# Altium schematic symbol library Documents.SCHLIB: 25 symbols
Pins are listed as number, name and electrical type; pins without a type are passive.

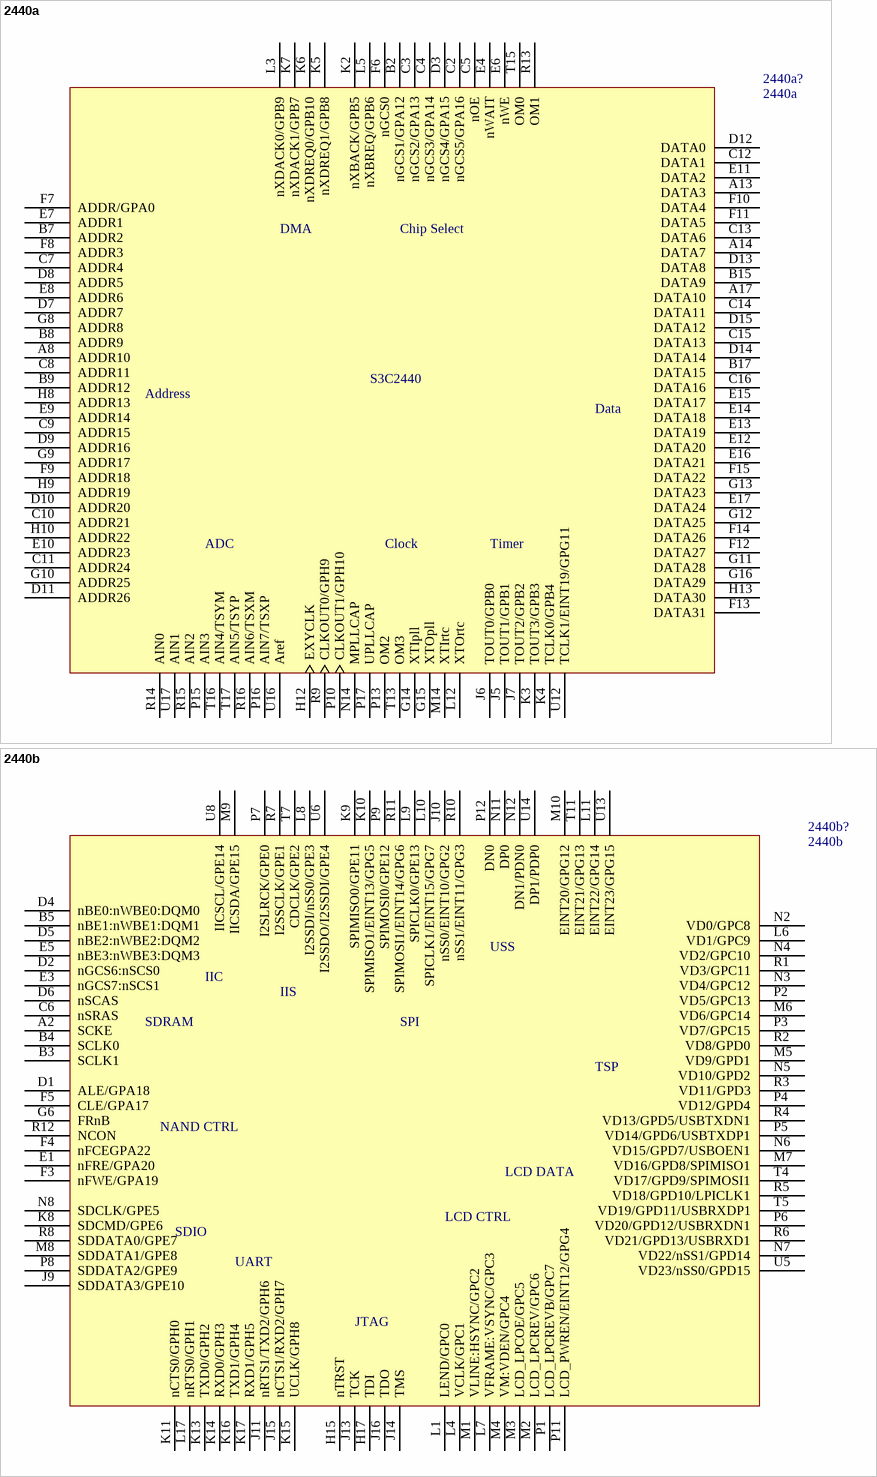
[diagram p0: symbols 2440a to 2440b]

## 2440a
designator 2440a?
pins: A8 ADDR10, A13 DATA3, A14 DATA7, A17 DATA10, B2 nGCS1/GPA12, B7 ADDR2, B8 ADDR9, B9 ADDR12, B15 DATA9, B17 DATA15, C2 nGCS5/GPA16, C3 nGCS2/GPA13, C4 nGCS3/GPA14, C5 nOE, C7 ADDR4, C8 ADDR11, C9 ADDR15, C10 ADDR21, C11 ADDR24, C12 DATA1, C13 DATA6, C14 DATA11, C15 DATA13, C16 DATA16, D3 nGCS4/GPA15, D7 ADDR7, D8 ADDR5, D9 ADDR16, D10 ADDR20, D11 ADDR26, D12 DATA0, D13 DATA8, D14 DATA14, D15 DATA12, E4 nWAIT, E6 nWE, E7 ADDR1, E8 ADDR6, E9 ADDR14, E10 ADDR23, E11 DATA2, E12 DATA20, E13 DATA19, E14 DATA18, E15 DATA17, E16 DATA21, E17 DATA24, F6 nGCS0, F7 ADDR/GPA0, F8 ADDR3, F9 ADDR18, F10 DATA4, F11 DATA5, F12 DATA27, F13 DATA31, F14 DATA26, F15 DATA22, G8 ADDR8, G9 ADDR17, G10 ADDR25, G11 DATA28, G12 DATA25, G13 DATA23, G14 XTIpll, G15 XTOpll, G16 DATA29, H8 ADDR13, H9 ADDR19, H10 ADDR22, H12 EXYCLK, H13 DATA30, J5 TOUT1/GPB1, J6 TOUT0/GPB0, J7 TOUT2/GPB2, K2 nXBACK/GPB5, K3 TOUT3/GPB3, K4 TCLK0/GPB4, K5 nXDREQ1/GPB8, K6 nXDREQ0/GPB10, K7 nXDACK1/GPB7, L3 nXDACK0/GPB9, L5 nXBREQ/GPB6, L12 XTOrtc, M14 XTIrtc, N14 MPLLCAP, P10 CLKOUT1/GPH10, P13 OM2, P15 AIN3, P16 AIN7/TSXP, P17 UPLLCAP, R9 CLKOUT0/GPH9, R13 OM1, R14 AIN0, R15 AIN2, R16 AIN6/TSXM, T13 OM3, T15 OM0, T16 AIN4/TSYM, T17 AIN5/TSYP, U12 TCLK1/EINT19/GPG11, U16 Aref, U17 AIN1
text: DMA; Chip Select; S3C2440; Address; Data; ADC; Clock; Timer

## 2440b
designator 2440b?
pins: A2 SCKE, B3 SCLK1, B4 SCLK0, B5 nBE1:nWBE1:DQM1, C6 nSRAS, D1 ALE/GPA18, D2 nGCS6:nSCS0, D4 nBE0:nWBE0:DQM0, D5 nBE2:nWBE2:DQM2, D6 nSCAS, E1 nFRE/GPA20, E3 nGCS7:nSCS1, E5 nBE3:nWBE3:DQM3, F3 nFWE/GPA19, F4 nFCEGPA22, F5 CLE/GPA17, G6 FRnB, H15 nTRST, H17 TDI, J9 SDDATA3/GPE10, J10 nSS0/EINT10/GPG2, J11 nRTS1/TXD2/GPH6, J13 TCK, J14 TMS, J15 nCTS1/RXD2/GPH7, J16 TDO, K8 SDCMD/GPE6, K9 SPIMISO0/GPE11, K10 SPIMISO1/EINT13/GPG5, K11 nCTS0/GPH0, K13 TXD0/GPH2, K14 RXD0/GPH3, K15 UCLK/GPH8, K16 TXD1/GPH4, K17 RXD1/GPH5, L1 LEND/GPC0, L4 VCLK/GPC1, L6 VD1/GPC9, L7 VFRAME:VSYNC/GPC3, L8 I2SSDI/nSS0/GPE3, L9 SPICLK0/GPE13, L10 SPICLK1/EINT15/GPG7, L11 EINT22/GPG14, L17 nRTS0/GPH1, M1 VLINE:HSYNC/GPC2, M2 LCD_LPCREV/GPC6, M3 LCD_LPCOE/GPC5, M4 VM:VDEN/GPC4, M5 VD9/GPD1, M6 VD6/GPC14, M7 VD16/GPD8/SPIMISO1, M8 SDDATA1/GPE8, M9 IICSDA/GPE15, M10 EINT20/GPG12, N2 VD0/GPC8, N3 VD4/GPC12, N4 VD2/GPC10, N5 VD10/GPD2, N6 VD15/GPD7/USBOEN1, N7 VD22/nSS1/GPD14, N8 SDCLK/GPE5, N11 DP0, N12 DN1/PDN0, P1 LCD_LPCREVB/GPC7, P2 VD5/GPC13, P3 VD7/GPC15, P4 VD12/GPD4, P5 VD14/GPD6/USBTXDP1, P6 VD20/GPD12/USBRXDN1, P7 I2SLRCK/GPE0, P8 SDDATA2/GPE9, P9 SPIMOSI0/GPE12, P11 LCD_PWREN/EINT12/GPG4, P12 DN0, R1 VD3/GPC11, R2 VD8/GPD0, R3 VD11/GPD3, R4 VD13/GPD5/USBTXDN1, R5 VD18/GPD10/LPICLK1, R6 VD21/GPD13/USBRXD1, R7 I2SSCLK/GPE1, R8 SDDATA0/GPE7, R10 nSS1/EINT11/GPG3, R11 SPIMOSI1/EINT14/GPG6, R12 NCON, T4 VD17/GPD9/SPIMOSI1, T5 VD19/GPD11/USBRXDP1, T7 CDCLK/GPE2, T11 EINT21/GPG13, U5 VD23/nSS0/GPD15, U6 I2SSDO/I2SSDI/GPE4, U8 IICSCL/GPE14, U13 EINT23/GPG15, U14 DP1/PDP0
text: USS; IIC; IIS; SDRAM; SPI; TSP; NAND CTRL; LCD DATA; LCD CTRL; SDIO; UART; JTAG

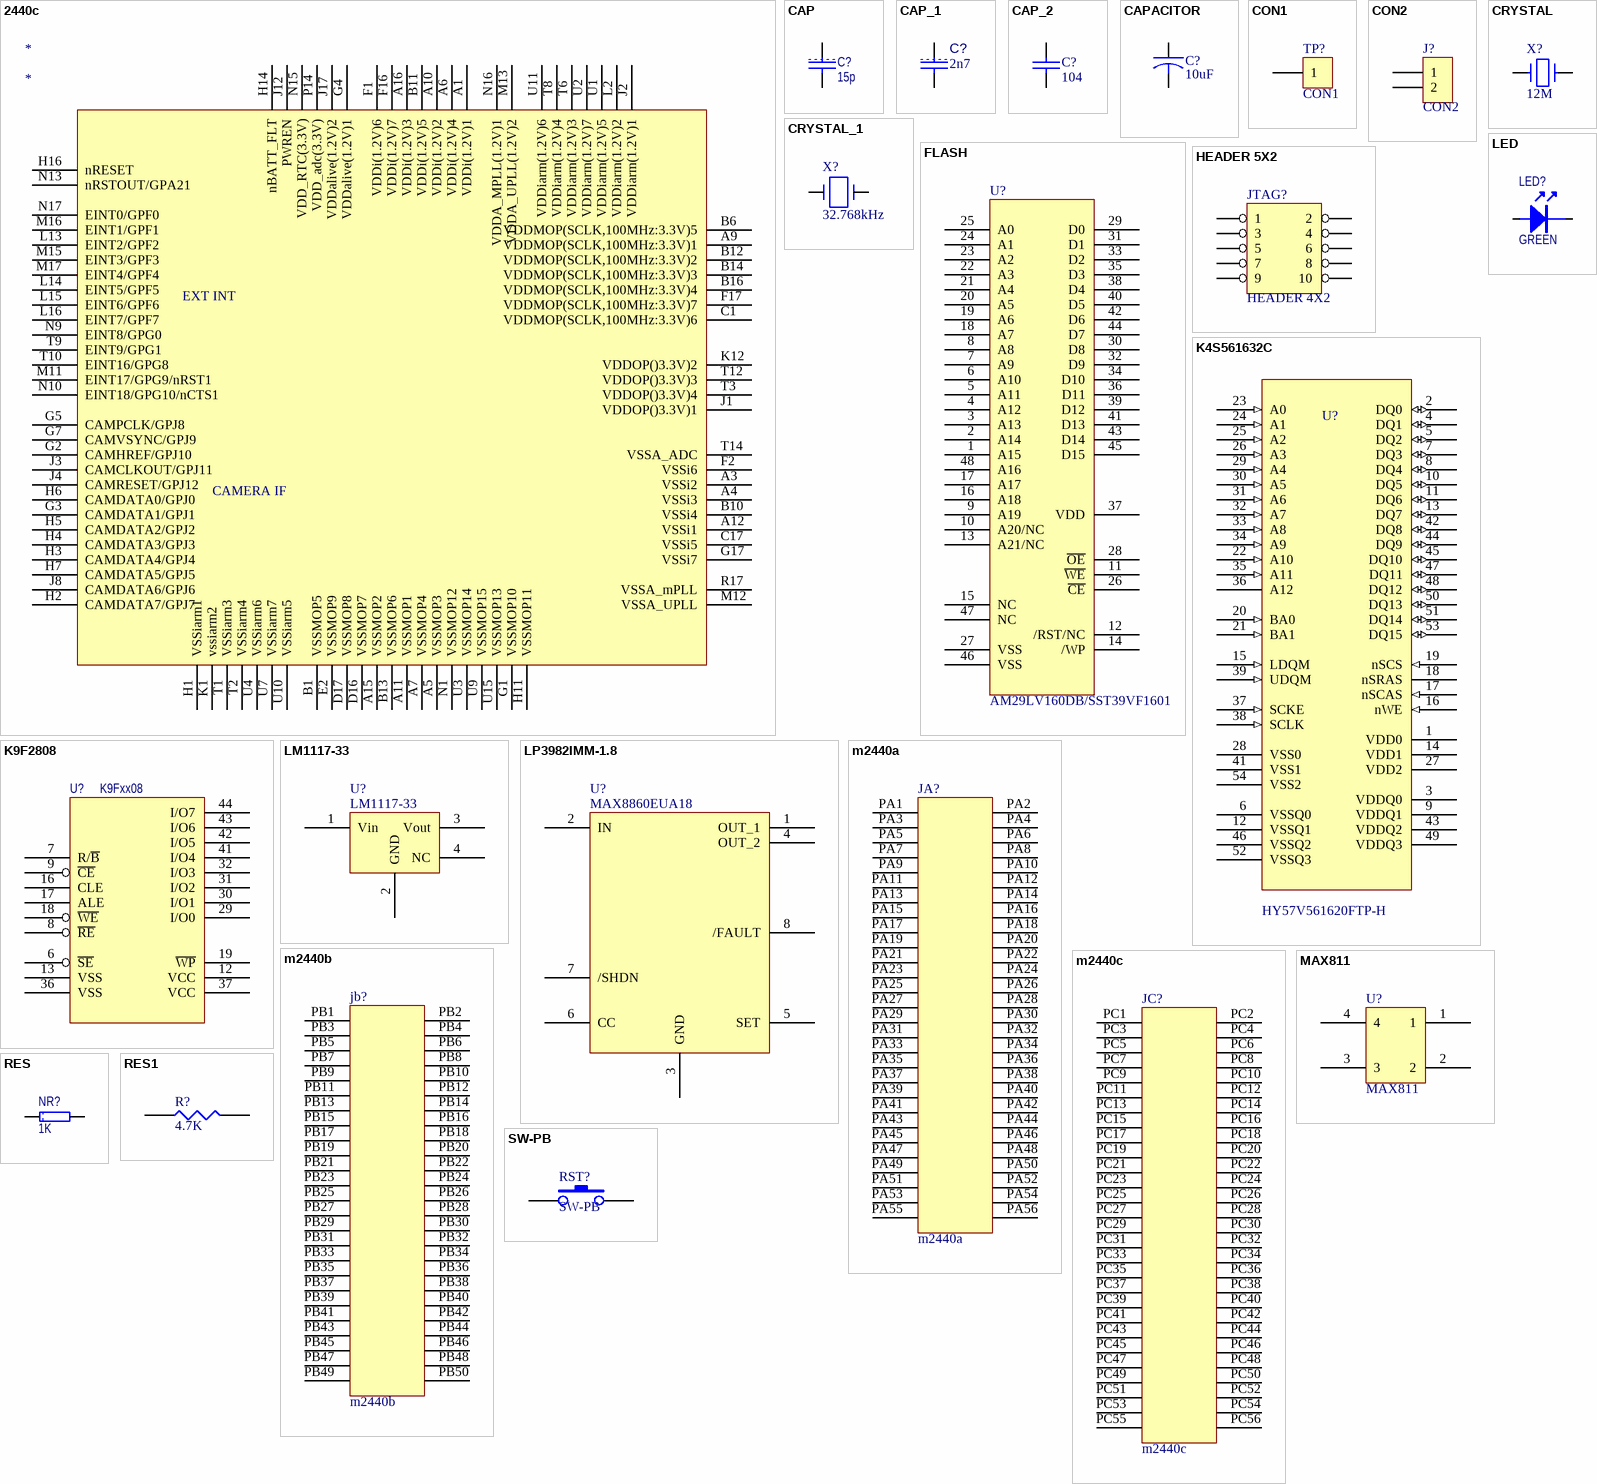
[diagram p1: symbols 2440c to SW-PB]

## 2440c
designator *
pins: A1 VDDi(1.2V)1, A3 VSSi2, A4 VSSi3, A5 VSSMOP3, A6 VDDi(1.2V)4, A7 VSSMOP4, A9 VDDMOP(SCLK,100MHz:3.3V)1, A10 VDDi(1.2V)2, A11 VSSMOP1, A12 VSSi1, A15 VSSMOP2, A16 VDDi(1.2V)3, B1 VSSMOP5, B6 VDDMOP(SCLK,100MHz:3.3V)5, B10 VSSi4, B11 VDDi(1.2V)5, B12 VDDMOP(SCLK,100MHz:3.3V)2, B13 VSSMOP6, B14 VDDMOP(SCLK,100MHz:3.3V)3, B16 VDDMOP(SCLK,100MHz:3.3V)4, C1 VDDMOP(SCLK,100MHz:3.3V)6, C17 VSSi5, D16 VSSMOP7, D17 VSSMOP8, E2 VSSMOP9, F1 VDDi(1.2V)6, F2 VSSi6, F16 VDDi(1.2V)7, F17 VDDMOP(SCLK,100MHz:3.3V)7, G1 VSSMOP10, G2 CAMHREF/GPJ10, G3 CAMDATA1/GPJ1, G4 VDDalive(1.2V)1, G5 CAMPCLK/GPJ8, G7 CAMVSYNC/GPJ9, G17 VSSi7, H1 VSSiarm1, H2 CAMDATA7/GPJ7, H3 CAMDATA4/GPJ4, H4 CAMDATA3/GPJ3, H5 CAMDATA2/GPJ2, H6 CAMDATA0/GPJ0, H7 CAMDATA5/GPJ5, H11 VSSMOP11, H14 nBATT_FLT, H16 nRESET, J1 VDDOP()3.3V)1, J2 VDDiarm(1.2V)1, J3 CAMCLKOUT/GPJ11, J4 CAMRESET/GPJ12, J8 CAMDATA6/GPJ6, J12 PWREN, J17 VDDalive(1.2V)2, K1 vssiarm2, K12 VDDOP()3.3V)2, L2 VDDiarm(1.2V)2, L13 EINT2/GPF2, L14 EINT5/GPF5, L15 EINT6/GPF6, L16 EINT7/GPF7, M11 EINT17/GPG9/nRST1, M12 VSSA_UPLL, M13 VDDA_UPLL(1.2V)2, M15 EINT3/GPF3, M16 EINT1/GPF1, M17 EINT4/GPF4, N1 VSSMOP12, N9 EINT8/GPG0, N10 EINT18/GPG10/nCTS1, N13 nRSTOUT/GPA21, N15 VDD_RTC(3.3V), N16 VDDA_MPLL(1.2V)1, N17 EINT0/GPF0, P14 VDD_adc(3.3V), R17 VSSA_mPLL, T1 VSSiarm3, T2 VSSiarm4, T3 VDDOP()3.3V)4, T6 VDDiarm(1.2V)3, T8 VDDiarm(1.2V)4, T9 EINT9/GPG1, T10 EINT16/GPG8, T12 VDDOP()3.3V)3, T14 VSSA_ADC, U1 VDDiarm(1.2V)5, U2 VDDiarm(1.2V)7, U3 VSSMOP14, U4 VSSiarm6, U7 VSSiarm7, U9 VSSMOP15, U10 VSSiarm5, U11 VDDiarm(1.2V)6, U15 VSSMOP13
text: EXT INT; CAMERA IF

## CAP
designator C?, comment 15p
Capacitor
footprint 0805
footprint 0603A
pins: 1, 2

## CAP_1
designator C?, comment 2n7
Capacitor
footprint 0805
footprint 0603
footprint 0603A
pins: 1, 2

## CAP_2
designator C?, comment 104
Capacitor
footprint 0603A
pins: 1, 2

## CAPACITOR
designator C?, comment 10uF
Capacitor
footprint 3216A
pins: 1, 2

## CON1
designator TP?
Connector
footprint TP1
pins: 1

## CON2
designator J?
Connector
footprint SIP2S
pins: 1, 2

## CRYSTAL
designator X?, comment 12M
Part Field 1: 1; Part Field 5: 1; Part Field 6: 1000K
footprint CRYSTAL
footprint OSC2PR-1
pins: 1, 2
2 alternate drawings of the same symbol

## CRYSTAL_1
designator X?, comment 32.768kHz
Text Field1: 20; Text Field2: 20
footprint XTAL-B
pins: 1, 2

## FLASH
designator U?, comment AM29LV160DB/SST39VF1601
footprint TSOP48
pins: 1 A15, 2 A14, 3 A13, 4 A12, 5 A11, 6 A10, 7 A9, 8 A8, 9 A19, 10 A20/NC, 11 ~{WE}, 12 /RST/NC, 13 A21/NC, 14 /WP, 15 NC, 16 A18, 17 A17, 18 A7, 19 A6, 20 A5, 21 A4, 22 A3, 23 A2, 24 A1, 25 A0, 26 ~{CE}, 27 VSS, 28 ~{OE}, 29 D0, 30 D8, 31 D1, 32 D9, 33 D2, 34 D10, 35 D3, 36 D11, 37 VDD, 38 D4, 39 D12, 40 D5, 41 D13, 42 D6, 43 D14, 44 D7, 45 D15, 46 VSS, 47 NC, 48 A16

## HEADER 5X2
designator JTAG?, comment HEADER 4X2
footprint IDC10S
pins: 1, 2, 3, 4, 5, 6, 7, 8, 9, 10

## K4S561632C
designator U?, comment HY57V561620FTP-H
Text Field1: 100; Text Field2: 340
footprint TSOP54
pins: 1 VDD0 (power), 2 DQ0 (io), 3 VDDQ0 (power), 4 DQ1 (io), 5 DQ2 (io), 6 VSSQ0 (power), 7 DQ3 (io), 8 DQ4 (io), 9 VDDQ1 (power), 10 DQ5 (io), 11 DQ6 (io), 12 VSSQ1 (power), 13 DQ7 (io), 14 VDD1 (power), 15 LDQM (in), 16 nWE (in), 17 nSCAS (in), 18 nSRAS, 19 nSCS (in), 20 BA0 (in), 21 BA1 (in), 22 A10 (in), 23 A0 (in), 24 A1 (in), 25 A2 (in), 26 A3 (in), 27 VDD2 (power), 28 VSS0 (power), 29 A4 (in), 30 A5 (in), 31 A6 (in), 32 A7 (in), 33 A8 (in), 34 A9 (in), 35 A11 (in), 36 A12, 37 SCKE (in), 38 SCLK (in), 39 UDQM (in), 41 VSS1 (power), 42 DQ8 (io), 43 VDDQ2 (power), 44 DQ9 (io), 45 DQ10 (io), 46 VSSQ2 (power), 47 DQ11 (io), 48 DQ12 (io), 49 VDDQ3 (power), 50 DQ13 (io), 51 DQ14 (io), 52 VSSQ3 (power), 53 DQ15 (io), 54 VSS2 (power)

## K9F2808
designator U?, comment K9Fxx08
footprint TSOP48
pins: 6 ~{SE}, 7 R/~{B}, 8 ~{RE}, 9 ~{CE}, 12 VCC (power), 13 VSS, 16 CLE, 17 ALE, 18 ~{WE}, 19 ~{WP}, 29 I/O0, 30 I/O1, 31 I/O2, 32 I/O3, 36 VSS, 37 VCC (power), 41 I/O4, 42 I/O5, 43 I/O6, 44 I/O7

## LED
designator LED?, comment GREEN
footprint LED
pins: 1, 2

## LM1117-33
designator U?
footprint TO-252
pins: 1 Vin, 2 GND, 3 Vout, 4 NC

## LP3982IMM-1.8
designator U?, comment MAX8860EUA18
footprint MSOP8
pins: 1 OUT_1, 2 IN, 3 GND, 4 OUT_2, 5 SET, 6 CC, 7 /SHDN, 8 /FAULT

## m2440a
designator JA?
pins: PA1, PA2, PA3, PA4, PA5, PA6, PA7, PA8, PA9, PA10, PA11, PA12, PA13, PA14, PA15, PA16, PA17, PA18, PA19, PA20, PA21, PA22, PA23, PA24, PA25, PA26, PA27, PA28, PA29, PA30, PA31, PA32, PA33, PA34, PA35, PA36, PA37, PA38, PA39, PA40, PA41, PA42, PA43, PA44, PA45, PA46, PA47, PA48, PA49, PA50, PA51, PA52, PA53, PA54, PA55, PA56

## m2440b
designator jb?
pins: PB1, PB2, PB3, PB4, PB5, PB6, PB7, PB8, PB9, PB10, PB11, PB12, PB13, PB14, PB15, PB16, PB17, PB18, PB19, PB20, PB21, PB22, PB23, PB24, PB25, PB26, PB27, PB28, PB29, PB30, PB31, PB32, PB33, PB34, PB35, PB36, PB37, PB38, PB39, PB40, PB41, PB42, PB43, PB44, PB45, PB46, PB47, PB48, PB49, PB50

## m2440c
designator JC?
pins: PC1, PC2, PC3, PC4, PC5, PC6, PC7, PC8, PC9, PC10, PC11, PC12, PC13, PC14, PC15, PC16, PC17, PC18, PC19, PC20, PC21, PC22, PC23, PC24, PC25, PC26, PC27, PC28, PC29, PC30, PC31, PC32, PC33, PC34, PC35, PC36, PC37, PC38, PC39, PC40, PC41, PC42, PC43, PC44, PC45, PC46, PC47, PC48, PC49, PC50, PC51, PC52, PC53, PC54, PC55, PC56

## MAX811
designator U?
footprint MAX811
pins: 1, 2, 3, 4

## RES
designator NR?, comment 1K
footprint 0805
footprint 0603
footprint 0603R
pins: 1, 2

## RES1
designator R?, comment 4.7K
footprint 0603R
pins: 1, 2

## SW-PB
designator RST?
footprint SW-PB2
pins: 1, 2